# Altium schematic symbol library CRJ007-MLG-TH.SchLib: 1 symbol
Pins are listed as number, name and electrical type; pins without a type are passive.

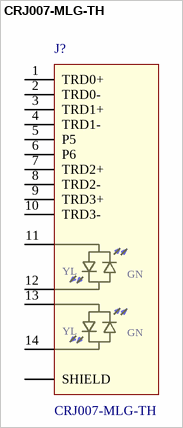
[diagram p0: symbol CRJ007-MLG-TH]

## CRJ007-MLG-TH
designator J?
Value: *
footprint *CUI_CRJ007-MLG-TH_CRJ007-MLG-TH(Primary)
pins: 1 TRD0+, 2 TRD0-, 3 TRD1+, 4 TRD1-, 5 P5, 6 P6, 7 TRD2+, 8 TRD2-, 9 TRD3+, 10 TRD3-, 11, 12, 13, 14, S1 SHIELD, S2 SHIELD
text: YL; GN